# Altium schematic symbol library schematics_library_legacy.SCHLIB: 6 symbols
Pins are listed as number, name and electrical type; pins without a type are passive.

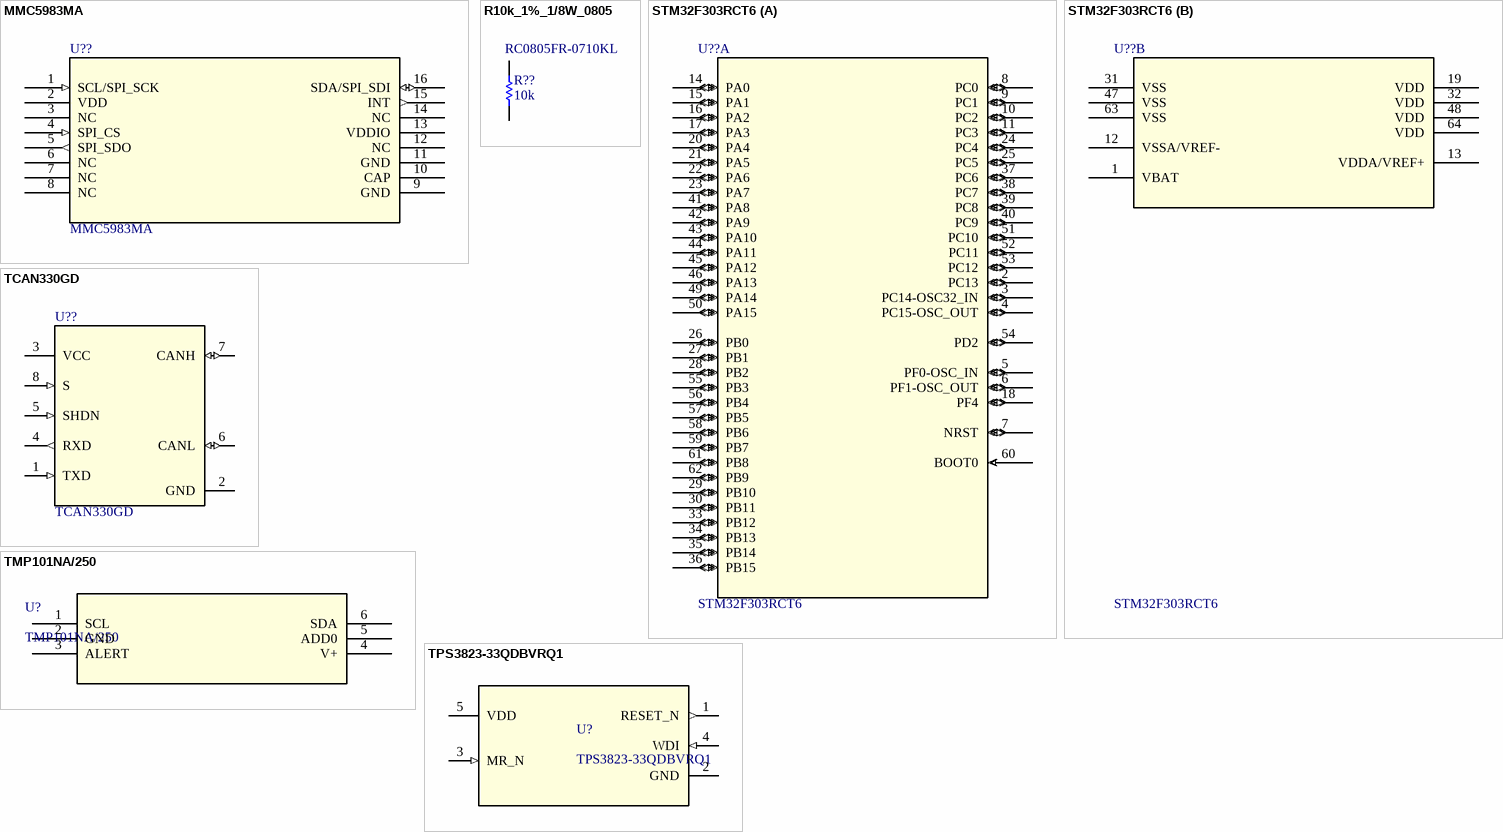
[diagram p0: symbols MMC5983MA to TPS3823-33QDBVRQ1]

## MMC5983MA
designator U??
Mfr_Name: Memsic; Copyright: Copyright (C) 2022 Ultra Librarian. All rights reserved.; Manufacturer_Part_Number: MMC5983MA; RefDes: RefDes; Type: DEV; Supplier 1: Arrow Electronics; Supplier Part Number 1: MMC5983MA
footprint MMC5983MA_MEM
pins: 1 SCL/SPI_SCK (in), 2 VDD (power), 3 NC, 4 SPI_CS (in), 5 SPI_SDO (out), 6 NC, 7 NC, 8 NC, 9 GND, 10 CAP (power), 11 GND, 12 NC, 13 VDDIO (power), 14 NC, 15 INT (out), 16 SDA/SPI_SDI (io)

## R10k_1%_1/8W_0805
designator R??, comment 10k  Supplier Part Number 1: RC0805FR-0710KL
RES 10K OHM 1/8W 1%  0805; Partnumber: CRCW080510K0FKEA; NCM: 8533.21.20; Supplier 1: Arrow Electronics
footprint 0805
pins: 1, 2

## STM32F303RCT6
designator U??
Mfr_Name: STMicroelectronics; Copyright: Copyright (C) 2022 Ultra Librarian. All rights reserved.; Manufacturer_Part_Number: STM32F303RCT6; RefDes: RefDes; Type: DEV
footprint LQFP64-10x10mm
part A pins: 2 PC13 (io), 3 PC14-OSC32_IN (io), 4 PC15-OSC_OUT (io), 5 PF0-OSC_IN (io), 6 PF1-OSC_OUT (io), 7 NRST (io), 8 PC0 (io), 9 PC1 (io), 10 PC2 (io), 11 PC3 (io), 14 PA0 (io), 15 PA1 (io), 16 PA2 (io), 17 PA3 (io), 18 PF4 (io), 20 PA4 (io), 21 PA5 (io), 22 PA6 (io), 23 PA7 (io), 24 PC4 (io), 25 PC5 (io), 26 PB0 (io), 27 PB1 (io), 28 PB2 (io), 29 PB10 (io), 30 PB11 (io), 33 PB12 (io), 34 PB13 (io), 35 PB14 (io), 36 PB15 (io), 37 PC6 (io), 38 PC7 (io), 39 PC8 (io), 40 PC9 (io), 41 PA8 (io), 42 PA9 (io), 43 PA10 (io), 44 PA11 (io), 45 PA12 (io), 46 PA13 (io), 49 PA14 (io), 50 PA15 (io), 51 PC10 (io), 52 PC11 (io), 53 PC12 (io), 54 PD2 (io), 55 PB3 (io), 56 PB4 (io), 57 PB5 (io), 58 PB6 (io), 59 PB7 (io), 60 BOOT0 (in), 61 PB8 (io), 62 PB9 (io)
part B pins: 1 VBAT (power), 12 VSSA/VREF- (power), 13 VDDA/VREF+ (power), 19 VDD (power), 31 VSS (power), 32 VDD (power), 47 VSS (power), 48 VDD (power), 63 VSS (power), 64 VDD (power)

## TCAN330GD
designator U??
Mfr_Name: Texas Instruments; Type: DEV; RefDes: RefDes; Copyright: Copyright (C) 2022 Ultra Librarian. All rights reserved.; Manufacturer_Part_Number: TCAN330GD; Supplier 1: Mouser; Supplier Part Number 1: 595-TCAN330GD
footprint D0008A_N
pins: 1 TXD (in), 2 GND (power), 3 VCC (power), 4 RXD (out), 5 SHDN (in), 6 CANL (io), 7 CANH (io), 8 S (in)

## TMP101NA/250
designator U?
Mfr_Name: Texas Instruments; Copyright: Copyright (C) 2022 Ultra Librarian. All rights reserved.; Manufacturer_Part_Number: TMP101NA/250; RefDes: RefDes; Type: DEV
footprint DBV6
pins: 1 SCL, 2 GND (power), 3 ALERT, 4 V+ (power), 5 ADD0, 6 SDA

## TPS3823-33QDBVRQ1
designator U?
Mfr_Name: Texas Instruments; Type: DEV; RefDes: RefDes; Copyright: Copyright (C) 2022 Ultra Librarian. All rights reserved.; Manufacturer_Part_Number: TPS3823-33QDBVRQ1
footprint DBV0005A_N
pins: 1 RESET_N (out), 2 GND (power), 3 MR_N (in), 4 WDI (in), 5 VDD (power)